# Altium footprint library PCB library TUSB8041 BRICE R1.PcbLib: 28 footprints (part 2 of 2)
Each footprint in its own frame and in the unit in brackets; x right, y up, seen from the top. Pads: shape width x height; smd on the part's side, far side on the other; paste and mask are expansions set on the pad; w line width, h text height; cw(c..) or ccw(c..) is an arc to the next point about the centre after c.
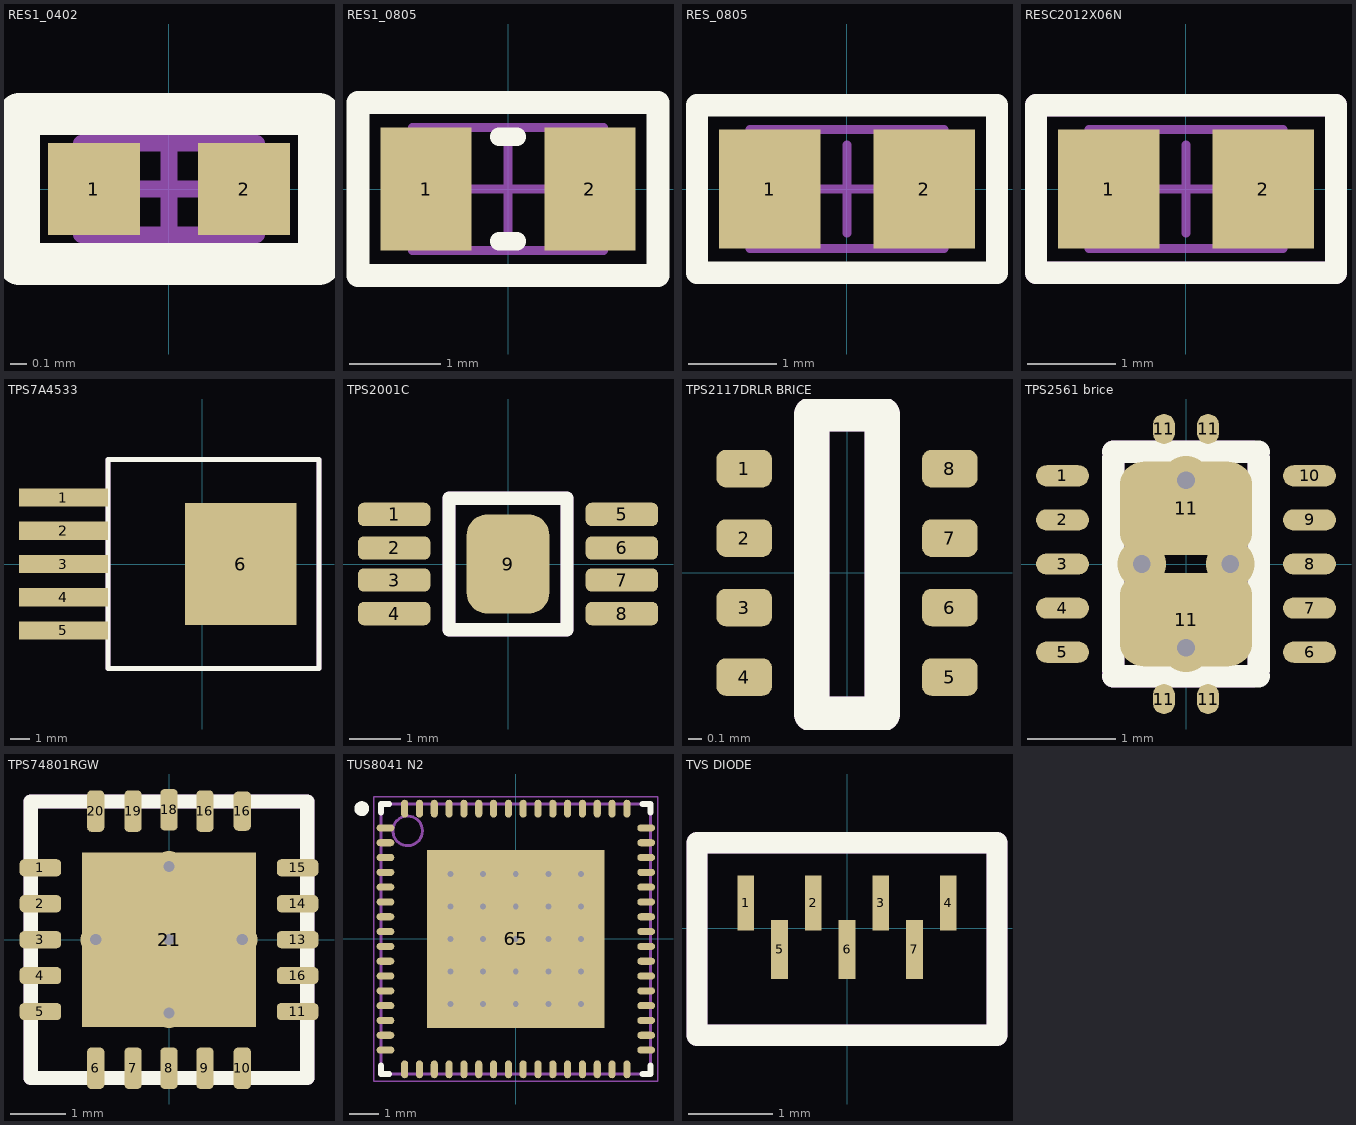
[diagram p1: the footprints below, top view; thin cyan lines are the x and y axes]

## RES1_0402 [mm] "Chip Resistor, 2-Leads, Body 1,00x0,50mm, IPC Medium Density"
height 0.4
pads (2):
  rect 0.55x0.55 smd: 1(-0.45,0) 2(0.45,0)
Top Overlay:
  lines w0.254: -0.9,-0.45 0.9,-0.45 0.9,0.45 -0.9,0.45 -0.9,-0.45
Top Assembly:
  lines w0.1: -0.525,-0.275 0.525,-0.275 ; -0.525,0.275 0.525,0.275
Top Designator:
  text ".Designator" at -7.618,-0.508 h1.52
Mechanical 13:
  lines w0.1: -0.525,-0.275 -0.525,0.275 ; 0.525,-0.275 0.525,0.275
Mechanical 15:
  lines w0.05: -0.9,-0.45 -0.9,0.45 0.9,0.45 0.9,-0.45 -0.9,-0.45
  lines w0.1: -0.275,0 0.275,0 ; 0,-0.275 0,0.275
3D body "RES1_0405.step": height 0.4, standoff 0, extent -0.525,-0.275 0.525,0.275

## RES1_0805 [mm] "Chip Resistor, 2-Leads, Body 2,00x1,25mm, IPC Medium Density"
height 0.6
pads (2):
  rect 1x1.35 smd: 1(-0.9,0) 2(0.9,0)
Top Overlay:
  lines w0.2: -0.1,-0.575 0.1,-0.575 ; -0.1,0.575 0.1,0.575
  lines w0.254: -1.65,-0.95 1.65,-0.95 1.65,0.95 -1.65,0.95 -1.65,-0.95
Top Assembly:
  lines w0.1: -1.05,-0.675 1.05,-0.675 ; -1.05,0.675 1.05,0.675
Top Designator:
  text ".Designator" at -7.618,-0.508 h1.52
Mechanical 13:
  lines w0.1: -1.05,-0.675 -1.05,0.675 ; 1.05,-0.675 1.05,0.675
Mechanical 15:
  lines w0.05: -1.65,-0.95 -1.65,0.95 1.65,0.95 1.65,-0.95 -1.65,-0.95
  lines w0.1: -0.5,0 0.5,0 ; 0,-0.5 0,0.5
3D body: height 0.6, standoff 0, extent -0.7,-0.675 0.7,0.675
3D body: height 0.6, standoff 0, extent -1.05,-0.675 -0.7,0.675
3D body: height 0.6, standoff 0, extent 0.7,-0.675 1.05,0.675

## RES_0805 [mm] "Chip Resistor, 2-Leads, Body 2,00x1,25mm, IPC Medium Density"
height 0.65
pads (2):
  rect 1.15x1.35 smd: 1(-0.875,0) 2(0.875,0)
Top Overlay:
  lines w0.254: -1.7,-0.95 1.7,-0.95 1.7,0.95 -1.7,0.95 -1.7,-0.95
Top Assembly:
  lines w0.1: -1.1,-0.675 1.1,-0.675 ; -1.1,0.675 1.1,0.675
Top Designator:
  text ".Designator" at -7.618,-0.508 h1.52
Mechanical 13:
  lines w0.1: -1.1,-0.675 -1.1,0.675 ; 1.1,-0.675 1.1,0.675
Mechanical 15:
  lines w0.05: -1.7,-0.95 -1.7,0.95 1.7,0.95 1.7,-0.95 -1.7,-0.95
  lines w0.1: -0.5,0 0.5,0 ; 0,-0.5 0,0.5
3D body "RES_0805.step": height 0.55, standoff 0, extent -0.975,-0.6 0.975,0.6

## RESC2012X06N [mm] "Chip Resistor, 2-Leads, Body 2,00x1,25mm, IPC Medium Density"
height 0.65
pads (2):
  rect 1.15x1.35 smd: 1(-0.875,0) 2(0.875,0)
Top Overlay:
  lines w0.254: -1.7,-0.95 1.7,-0.95 1.7,0.95 -1.7,0.95 -1.7,-0.95
Top Assembly:
  lines w0.254: -1.7,-0.95 1.7,-0.95 1.7,0.95 -1.7,0.95 -1.7,-0.95
Top Designator:
  text ".Designator" at -7.618,-0.508 h1.52
Mechanical 13:
  lines w0.1: -1.1,-0.675 1.1,-0.675 1.1,0.675 -1.1,0.675 -1.1,-0.675
Mechanical 15:
  lines w0.05: -1.7,-0.95 1.7,-0.95 1.7,0.95 -1.7,0.95 -1.7,-0.95
  lines w0.1: -0.5,0 0.5,0 ; 0,-0.5 0,0.5
3D body: height 0.65, standoff 0, extent 0.75,-0.675 1.1,0.675
3D body: height 0.65, standoff 0, extent -1.1,-0.675 -0.75,0.675
3D body: height 0.65, standoff 0, extent -0.75,-0.675 0.75,0.675

## TPS7A4533 [mm]
pads (6):
  rect 4.55x0.91 smd: 1(-7.1,3.4) 3(-7.1,0) 5(-7.1,-3.4)
  rect 4.55x0.96 smd: 2(-7.1,1.7) 4(-7.1,-1.7)
  rect 5.72x6.22 smd: 6(1.965,0)
Top Overlay:
  lines w0.254: -4.825,5.334 5.965,5.334 ; -4.825,5.335 -4.825,-5.335 5.965,-5.335 5.965,5.335
Top Assembly:
  lines w0.254: -4.825,5.334 5.964,5.334 5.965,5.333 5.965,-5.335 -4.825,-5.335 -4.825,5.335
Top Designator:
  text ".Designator" at -9.459,-0.508 h1.52
3D body "TPS7A4533KTTR.stp": height 4.57, standoff -0.15, extent -9.774,-5.08 4.576,5.08

## TPS2001C [mm]
pads (9):
  rrect50% 1.4x0.45 smd: 1(-2.2,0.96) 2(-2.2,0.31) 3(-2.2,-0.31) 4(-2.2,-0.96) 5(2.2,0.96) 6(2.2,0.31) 7(2.2,-0.31) 8(2.2,-0.96)
  rrect50% 1.6x1.92 smd: 9(0,0)
Top Overlay:
  lines w0.254: -1.143,-1.27 -1.143,1.27 1.143,1.27 1.143,-1.27 -1.143,-1.27
Top Assembly:
  lines w0.254: -1.143,-1.27 -1.143,1.27 1.143,1.27 1.143,-1.27 -1.143,-1.27
Top Designator:
  text ".Designator" at -7.618,-0.508 h1.52
3D body "TPS2001CDGN.step": height 1.1, standoff 0, extent -2.45,-1.5 2.45,1.5

## TPS2117DRLR [mm]
Top Designator:
  text ".Designator" at -7.63,-0.521 h1.52

## TPS2117DRLR BRICE [mm]
pads (8):
  rrect50% 0.4x0.27 smd: 1(-0.74,0.75) 2(-0.74,0.25) 3(-0.74,-0.25) 4(-0.74,-0.75) 5(0.74,-0.75) 6(0.74,-0.25) 7(0.74,0.25) 8(0.74,0.75)
Top Overlay:
  lines w0.254: -0.254,-1.016 0.254,-1.016 0.254,1.143 -0.254,1.143 -0.254,-1.016
Top Assembly:
  lines w0.254: -0.254,-1.016 -0.254,1.143 ; -0.254,-1.016 0.254,-1.016 ; -0.254,-1.016 -0.254,1.143 ; -0.254,-1.016 0.254,-1.016 ; -0.254,1.143 0.254,1.143 ; -0.254,1.143 0.254,1.143 ; 0.254,-1.016 0.254,1.143 ; 0.254,-1.016 0.254,1.143
Top Designator:
  text ".Designator" at -2.499,-0.103 h0.5
3D body "TPS2117DRLR.stp": height 0.6, standoff 0, extent -0.8,-1.05 0.8,1.05

## TPS2561 brice [mm]
pads (16):
  oval 0.6x0.24 smd: 1(-1.4,1) 2(-1.4,0.5) 3(-1.4,0) 4(-1.4,-0.5) 5(-1.4,-1) 6(1.4,-1) 7(1.4,-0.5) 8(1.4,0) 9(1.4,0.5) 10(1.4,1)
  oval 0.25x0.34 smd: 11(-0.25,-1.53) 11(-0.25,1.53) 11(0.25,-1.53) 11(0.25,1.53)
  rrect50% 1.5x1.06 smd: 11(0,-0.63) 11(0,0.63)
via 0.5,0 diameter 0.55 hole 0.2
via -0.5,0 diameter 0.55 hole 0.2
via 0,0.95 diameter 0.55 hole 0.2
via 0,-0.95 diameter 0.55 hole 0.2
Top Overlay:
  lines w0.254: -0.825,-1.27 0.825,-1.27 ; -0.825,-1.2 -0.825,1.2 ; -0.825,1.27 0.825,1.27 ; 0.825,-1.2 0.825,1.2
Top Assembly:
  lines w0.254: -0.825,1.2 -0.825,-1.27 0.755,-1.27 0.825,-1.2 0.825,1.2 0.755,1.27 -0.825,1.27
Top Designator:
  text ".Designator" at -7.618,-0.508 h1.52
3D body "TPS2561DRCR.stp": height 1, standoff 0, extent -1.5,-1.5 1.5,1.5

## TPS74801RGW [mm]
pads (21):
  rrect50% 0.75x0.31 smd: 1(-2.325,1.3) 2(-2.325,0.65) 3(-2.325,0) 4(-2.325,-0.65) 5(-2.325,-1.3) 11(2.325,-1.3) 13(2.325,0) 14(2.325,0.65) 15(2.325,1.3) 16(2.325,-0.65)
  rrect50% 0.31x0.75 smd: 6(-1.325,-2.325) 7(-0.65,-2.325) 8(0,-2.325) 9(0.65,-2.325) 10(1.325,-2.325) 16(0.65,2.325) 18(0,2.35) 19(-0.65,2.325) 20(-1.325,2.325)
  rrect50% 0.31x0.71 smd: 16(1.325,2.325)
  rect 3.15x3.15 smd: 21(0,0)
via 0,0 diameter 0.55 hole 0.2
via 0,1.325 diameter 0.55 hole 0.2
via -1.325,0 diameter 0.55 hole 0.2
via 1.325,0 diameter 0.55 hole 0.2
via 0,-1.325 diameter 0.55 hole 0.2
Top Overlay:
  lines w0.254: -2.5,-2.5 2.5,-2.5 2.5,2.5 -2.5,2.5 -2.5,-2.5
Top Assembly:
  lines w0.254: -2.5,-2.5 2.5,-2.5 2.5,2.5 -2.5,2.5 -2.5,-2.5
Top Designator:
  text ".Designator" at -7.618,-0.495 h1.52
3D body "TPS74801RGWR.stp": height 1, standoff 0, extent -2.5,-2.5 2.5,2.5

## TUS8041 N2 [mm] "PQFN, 64-Leads, Body 9,00x9,00mm, Pitch 0,50mm, Thermal Pad 6,00x6,00mm, IPC Medium Density"
height 1
pads (65):
  oval 0.6x0.24 smd: 1(-4.4,3.75) 2(-4.4,3.25) 3(-4.4,2.75) 4(-4.4,2.25) 5(-4.4,1.75) 6(-4.4,1.25) 7(-4.4,0.75) 8(-4.4,0.25) 9(-4.4,-0.25) 10(-4.4,-0.75) 11(-4.4,-1.25) 12(-4.4,-1.75) 13(-4.4,-2.25) 14(-4.4,-2.75) 15(-4.4,-3.25) 16(-4.4,-3.75) 33(4.4,-3.75) 34(4.4,-3.25) 35(4.4,-2.75) 36(4.4,-2.25) 37(4.4,-1.75) 38(4.4,-1.25) 39(4.4,-0.75) 40(4.4,-0.25) 41(4.4,0.25) 42(4.4,0.75) 43(4.4,1.25) 44(4.4,1.75) 45(4.4,2.25) 46(4.4,2.75) 47(4.4,3.25) 48(4.4,3.75)
  oval 0.24x0.6 smd: 17(-3.75,-4.4) 18(-3.25,-4.4) 19(-2.75,-4.4) 20(-2.25,-4.4) 21(-1.75,-4.4) 22(-1.25,-4.4) 23(-0.75,-4.4) 24(-0.25,-4.4) 25(0.25,-4.4) 26(0.75,-4.4) 27(1.25,-4.4) 28(1.75,-4.4) 29(2.25,-4.4) 30(2.75,-4.4) 31(3.25,-4.4) 32(3.75,-4.4) 49(3.75,4.4) 50(3.25,4.4) 51(2.75,4.4) 52(2.25,4.4) 53(1.75,4.4) 54(1.25,4.4) 55(0.75,4.4) 56(0.25,4.4) 57(-0.25,4.4) 58(-0.75,4.4) 59(-1.25,4.4) 60(-1.75,4.4) 61(-2.25,4.4) 62(-2.75,4.4) 63(-3.25,4.4) 64(-3.75,4.4)
  rect 6x6 smd: 65(0,0)
via -2.2,2.2 diameter 0.5 hole 0.2
via -1.1,2.2 diameter 0.5 hole 0.2
via 0,2.2 diameter 0.5 hole 0.2
via 1.1,2.2 diameter 0.5 hole 0.2
via 2.2,2.2 diameter 0.5 hole 0.2
via -2.2,1.1 diameter 0.5 hole 0.2
via -1.1,1.1 diameter 0.5 hole 0.2
via 0,1.1 diameter 0.5 hole 0.2
via 1.1,1.1 diameter 0.5 hole 0.2
via 2.2,1.1 diameter 0.5 hole 0.2
via -2.2,0 diameter 0.5 hole 0.2
via -1.1,0 diameter 0.5 hole 0.2
via 0,0 diameter 0.5 hole 0.2
via 1.1,0 diameter 0.5 hole 0.2
via 2.2,0 diameter 0.5 hole 0.2
via -2.2,-1.1 diameter 0.5 hole 0.2
via -1.1,-1.1 diameter 0.5 hole 0.2
via 0,-1.1 diameter 0.5 hole 0.2
via 1.1,-1.1 diameter 0.5 hole 0.2
via 2.2,-1.1 diameter 0.5 hole 0.2
via -2.2,-2.2 diameter 0.5 hole 0.2
via -1.1,-2.2 diameter 0.5 hole 0.2
via 0,-2.2 diameter 0.5 hole 0.2
via 1.1,-2.2 diameter 0.5 hole 0.2
via 2.2,-2.2 diameter 0.5 hole 0.2
Top Overlay:
  circle w0.25: c-5.2,4.4 r0.125
  lines w0.2: -4.55,-4.27 -4.55,-4.55 -4.27,-4.55 ; -4.55,4.27 -4.55,4.55 -4.27,4.55 ; 4.27,-4.55 4.55,-4.55 4.55,-4.27 ; 4.27,4.55 4.55,4.55 4.55,4.27
Top Assembly:
  circle w0.1: c-3.65,3.65 r0.5
  lines w0.1: -4.55,-4.55 4.55,-4.55 4.55,4.55 -4.55,4.55 -4.55,-4.55
Top Designator:
  text ".Designator" at -7.93,-0.508 h1.52
Mechanical 15:
  lines w0.05: -4.8,-4.8 -4.8,4.8 4.8,4.8 4.8,-4.8 -4.8,-4.8
  lines w0.1: -0.5,0 0.5,0 ; 0,-0.5 0,0.5
3D body "TUS8041 N2.step": height 1, standoff 0, extent -4.55,-4.55 4.55,4.55

## TVS DIODE [mm]
pads (7):
  rect 0.2x0.65 smd: 1(-1.2,0.3) 2(-0.4,0.3) 3(0.4,0.3) 4(1.2,0.3)
  rect 0.2x0.7 smd: 5(-0.8,-0.25) 6(0,-0.25) 7(0.8,-0.25)
Top Overlay:
  lines w0.254: -1.778,-1.27 1.778,-1.27 1.778,1.016 -1.778,1.016 -1.778,-1.27
Top Assembly:
  lines w0.254: -1.778,-1.27 -1.778,1.016 1.778,1.016 1.778,-1.27 -1.778,-1.27
Top Designator:
  text ".Designator" at -7.618,-0.635 h1.52
3D body "RCLAMP3346P.TNT.stp": height 0.63, standoff 0, extent -1.35,-0.605 1.35,0.605